# Altium footprint library 400236.PcbLib: 64 footprints (part 2 of 4)
Each footprint in its own frame and in the unit in brackets; x right, y up, seen from the top. Pads: shape width x height; smd on the part's side, far side on the other; paste and mask are expansions set on the pad; w line width, h text height; cw(c..) or ccw(c..) is an arc to the next point about the centre after c.
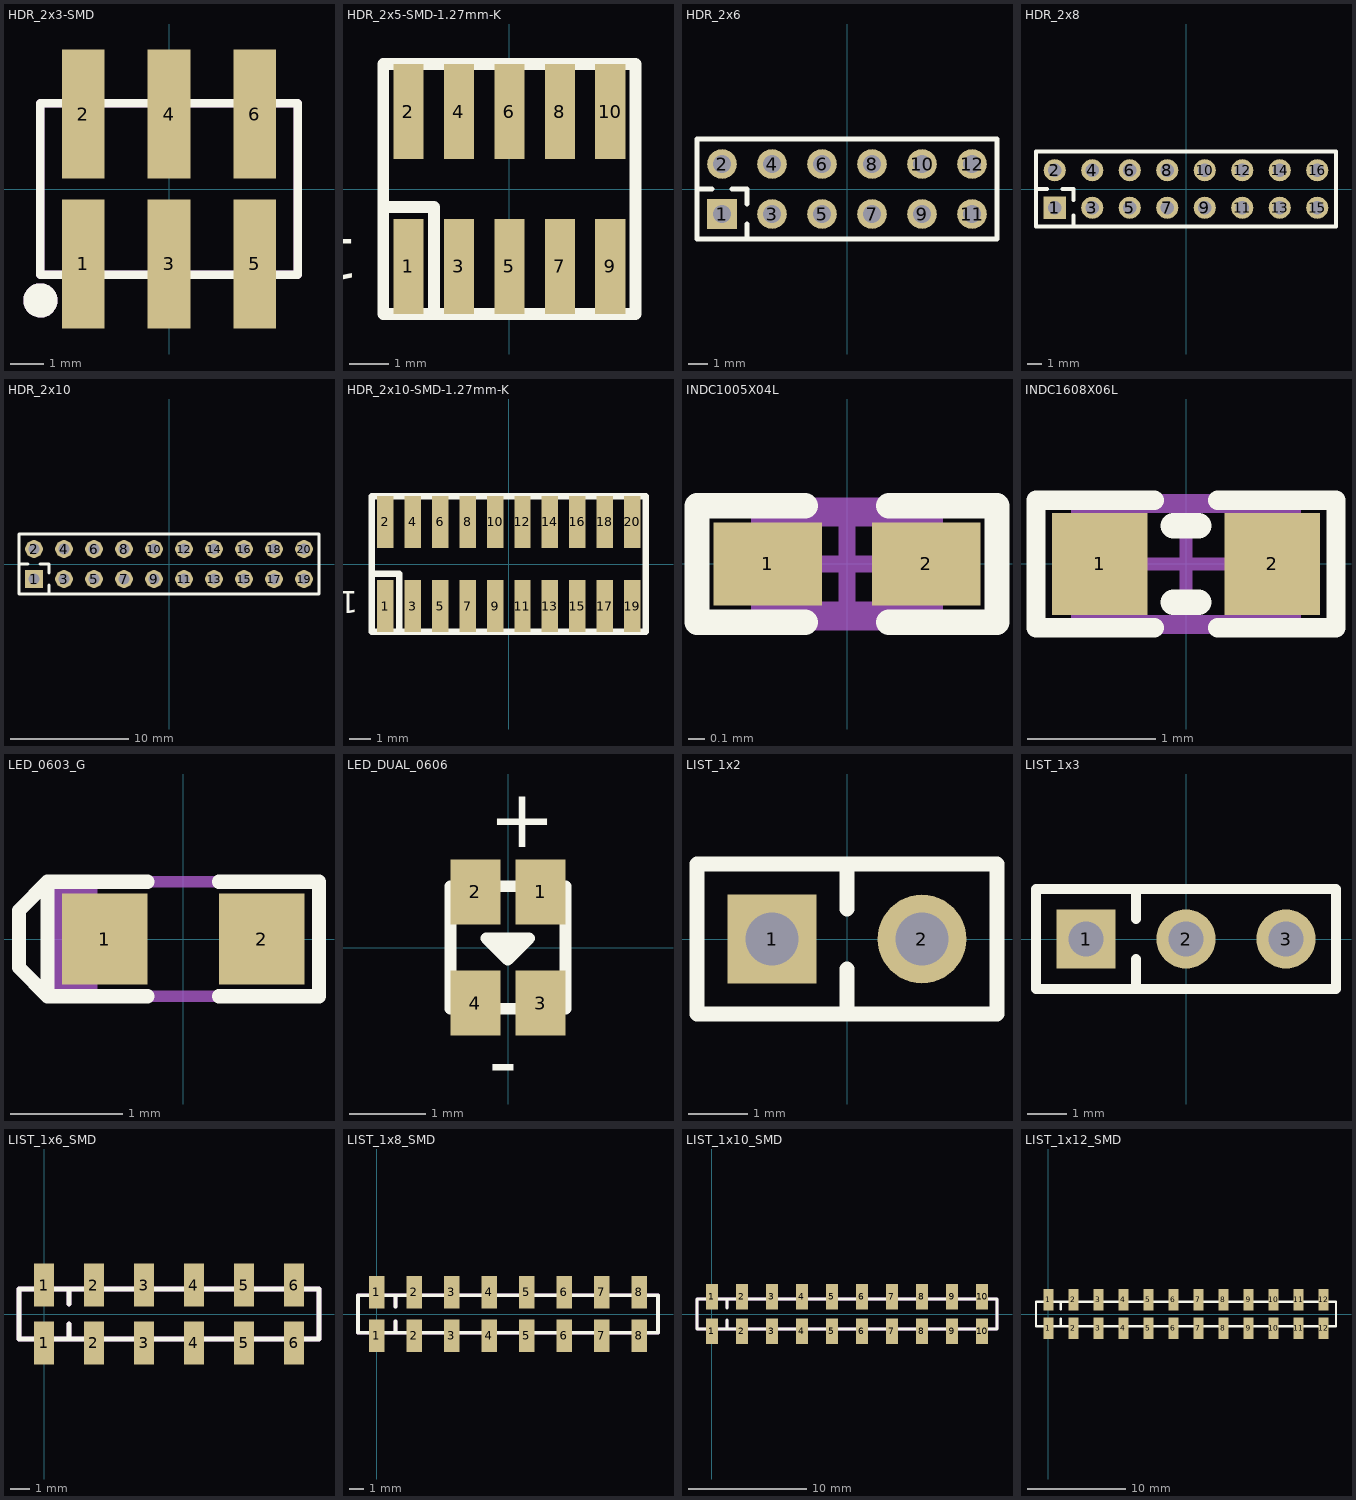
[diagram p1: the footprints below, top view; thin cyan lines are the x and y axes]

## HDR_2x3-SMD [mil]
pads (6):
  rect 50x150 smd: 1(-100,-87.5) 2(-100,87.5) 3(0,-87.5) 4(0,87.5) 5(100,-87.5) 6(100,87.5)
Top Overlay:
  circle w20: c-150,-130 r10
  lines w10: -150,-100 -150,100 150,100 150,-100 -150,-100
Mechanical 7:
  circle w20: c-150,-130 r10
  lines w10: -150,-100 -150,100 150,100 150,-100 -150,-100
  text ".Designator" at -135,-10 h27
3D body "pin_header_a-sl254-dg-g06mp1.stp": height 382.03, standoff -1.57, extent -149.99,-147.63 150.01,147.64

## HDR_2x5-SMD-1.27mm-K [mm]
pads (10):
  rect 0.76x2.4 smd: 1(-2.54,-1.95) 2(-2.54,1.95) 3(-1.27,-1.95) 4(-1.27,1.95) 5(0,-1.95) 6(0,1.95) 7(1.27,-1.95) 8(1.27,1.95) 9(2.54,-1.95) 10(2.54,1.95)
Top Overlay:
  lines w0.3: -3.175,-0.45 -1.9,-0.45 -1.9,-3.15 ; -3.175,-3.15 -3.175,3.15 3.175,3.15 3.175,-3.15 -3.175,-3.15
  text "1" at -3.81,-1.27 h1.02
3D body "Samtec-FTSH-105-01-F-DV-K.step": height 6.11, standoff -0.01, extent -3.137,-2.921 3.137,2.921

## HDR_2x6 [mm]
pads (12):
  rect 1.5x1.5 hole 0.9: 1(-6.35,-1.27)
  round 1.5 hole 0.9: 2(-6.35,1.27) 3(-3.81,-1.27) 4(-3.81,1.27) 5(-1.27,-1.27) 6(-1.27,1.27) 7(1.27,-1.27) 8(1.27,1.27) 9(3.81,-1.27) 10(3.81,1.27) 11(6.35,-1.27) 12(6.35,1.27)
Top Overlay:
  lines w0.254: -7.62,0 -6.858,0 ; -5.842,0 -5.08,0 -5.08,-0.762 ; -5.08,-2.54 -5.08,-1.778 ; -7.62,-2.54 7.62,-2.54 7.62,2.54 -7.62,2.54 -7.62,-2.54

## HDR_2x8 [mm]
pads (16):
  rect 1.5x1.5 hole 0.9: 1(-8.89,-1.27)
  round 1.5 hole 0.9: 2(-8.89,1.27) 3(-6.35,-1.27) 4(-6.35,1.27) 5(-3.81,-1.27) 6(-3.81,1.27) 7(-1.27,-1.27) 8(-1.27,1.27) 9(1.27,-1.27) 10(1.27,1.27) 11(3.81,-1.27) 12(3.81,1.27) 13(6.35,-1.27) 14(6.35,1.27) 15(8.89,-1.27) 16(8.89,1.27)
Top Overlay:
  lines w0.254: -10.16,0 -9.398,0 ; -8.382,0 -7.62,0 -7.62,-0.762 ; -7.62,-2.54 -7.62,-1.778 ; -10.16,-2.54 10.16,-2.54 10.16,2.54 -10.16,2.54 -10.16,-2.54

## HDR_2x10 [mm]
pads (20):
  rect 1.5x1.5 hole 0.9: 1(-11.43,-1.27)
  round 1.5 hole 0.9: 2(-11.43,1.27) 3(-8.89,-1.27) 4(-8.89,1.27) 5(-6.35,-1.27) 6(-6.35,1.27) 7(-3.81,-1.27) 8(-3.81,1.27) 9(-1.27,-1.27) 10(-1.27,1.27) 11(1.27,-1.27) 12(1.27,1.27) 13(3.81,-1.27) 14(3.81,1.27) 15(6.35,-1.27) 16(6.35,1.27) 17(8.89,-1.27) 18(8.89,1.27) 19(11.43,-1.27) 20(11.43,1.27)
Top Overlay:
  lines w0.254: -12.7,0 -11.938,0 ; -10.922,0 -10.16,0 -10.16,-0.762 ; -10.16,-2.54 -10.16,-1.778 ; -12.7,-2.54 -12.7,2.54 12.7,2.54 12.7,-2.54 -12.7,-2.54

## HDR_2x10-SMD-1.27mm-K [mm]
pads (20):
  rect 0.76x2.4 smd: 1(-5.715,-1.95) 2(-5.715,1.95) 3(-4.445,-1.95) 4(-4.445,1.95) 5(-3.175,-1.95) 6(-3.175,1.95) 7(-1.905,-1.95) 8(-1.905,1.95) 9(-0.635,-1.95) 10(-0.635,1.95) 11(0.635,-1.95) 12(0.635,1.95) 13(1.905,-1.95) 14(1.905,1.95) 15(3.175,-1.95) 16(3.175,1.95) 17(4.445,-1.95) 18(4.445,1.95) 19(5.715,-1.95) 20(5.715,1.95)
Top Overlay:
  lines w0.3: -6.35,-0.45 -5.075,-0.45 -5.075,-3.15 ; -6.35,-3.15 -6.35,3.15 6.35,3.15 6.35,-3.15 -6.35,-3.15
  text "1" at -6.985,-1.27 h1.02

## INDC1005X04L [mm]
pads (2):
  rect 0.65x0.5 smd: 1(-0.475,0) 2(0.475,0)
Top Overlay:
  lines w0.152: -0.25,-0.35 -0.9,-0.35 -0.9,0.35 -0.25,0.35 ; 0.25,-0.35 0.9,-0.35 0.9,0.35 0.25,0.35
Mechanical 7:
  lines w0.1: -0.525,-0.275 -0.525,0.275 0.525,0.275 0.525,-0.275 -0.525,-0.275
  text ".Designator" at -0.531,0.396 h0.38
Mechanical 15:
  lines w0.1: -0.275,0 0.275,0 ; 0,-0.275 0,0.275 ; -0.9,-0.35 -0.9,0.35 0.9,0.35 0.9,-0.35 -0.9,-0.35
3D body "User Library-Chip Inductor 0402.step": height 0.5, standoff 0, extent -0.5,-0.3 0.5,0.3

## INDC1608X06L [mm]
pads (2):
  rect 0.75x0.8 smd: 1(-0.675,0) 2(0.675,0)
Top Overlay:
  lines w0.152: -0.25,-0.5 -1.175,-0.5 -1.175,0.5 -0.25,0.5 ; 0.25,-0.5 1.175,-0.5 1.175,0.5 0.25,0.5
  lines w0.2: -0.1,-0.3 0.1,-0.3 ; -0.1,0.3 0.1,0.3
Mechanical 7:
  lines w0.1: -0.85,-0.45 0.85,-0.45 0.85,0.45 -0.85,0.45 -0.85,-0.45
  text ".Designator" at -0.7,-0.2 h0.38
Mechanical 15:
  lines w0.1: -0.45,0 0.45,0 ; 0,-0.45 0,0.45 ; -1.175,-0.5 1.175,-0.5 1.175,0.5 -1.175,0.5 -1.175,-0.5
3D body "User Library-Chip Inductor.step": height 0.8, standoff 0, extent -0.8,-0.475 0.8,0.475

## LED_0603_G [mil]
pads (2):
  rect 30x32 smd: 1(-27.5,0) 2(27.5,0)
Top Overlay:
  lines w5: -12.5,-20 -47.5,-20 ; -12.5,20 -47.5,20 ; 12.5,-20 47.5,-20 47.5,20 12.5,20 ; -47.5,-20 -47.5,20 ; -47.5,-20 -57.5,-10 -57.5,10 -47.5,20
Mechanical 7:
  rectangle: -47.5,-20 -30,20
  lines w3.94: -47.5,20 47.5,20 ; -47.5,20 47.5,20 ; -47.5,20 47.5,20 ; -47.5,20 -47.5,-20 47.5,-20 47.5,20
  text ".Designator" at -21.36,-7.15 h15
3D body "User Library-led_0603_green.step": height 23.62, standoff 0, extent -31.63,-15.75 32.15,15.75

## LED_DUAL_0606 [mm]
pads (4):
  rect 0.65x0.85 smd paste+0: 1(0.425,0.725) 2(-0.425,0.725) 3(0.425,-0.725) 4(-0.425,-0.725)
Top Overlay:
  region: -0.285,0.12 -0.005,-0.16 0.275,0.12
  lines w0.15: -0.75,-0.8 0.75,-0.8 ; -0.75,0.8 0.75,0.8
  lines w0.152: -0.75,-0.8 -0.75,0.8 ; 0.75,-0.8 0.75,0.8 ; -0.285,0.12 -0.005,-0.16 0.275,0.12 -0.285,0.12
  text "-" at -0.254,-1.845 h0.76
  text "+" at -0.254,1.305 h0.76
Mechanical 7:
  text ".Designator" at -0.55,-0.625 h0.38
3D body: height 0.36, standoff 0.18, extent -0.525,-0.15 -0.225,0.15
3D body: height 0.55, standoff 0.18, extent -0.75,-0.55 0.75,0.55
3D body: height 0.36, standoff 0.18, extent 0.235,-0.15 0.535,0.15
3D body: height 0.18, standoff 0, extent -0.75,-0.8 0.75,0.8

## LIST_1x2 [mm]
pads (2):
  rect 1.5x1.5 hole 0.9: 1(-1.27,0)
  round 1.5 hole 0.9: 2(1.27,0)
Top Overlay:
  lines w0.254: 0,-1.27 0,-0.508 ; 0,0.508 0,1.27 ; -2.54,-1.27 -2.54,1.27 2.54,1.27 2.54,-1.27 -2.54,-1.27

## LIST_1x3 [mm]
pads (3):
  rect 1.5x1.5 hole 0.9: 1(-2.54,0)
  round 1.5 hole 0.9: 2(0,0) 3(2.54,0)
Top Overlay:
  lines w0.254: -1.27,-1.27 -1.27,-0.508 ; -1.27,0.508 -1.27,1.27 ; -3.81,-1.27 3.81,-1.27 3.81,1.27 -3.81,1.27 -3.81,-1.27

## LIST_1x6_SMD [mm]
pads (12):
  rect 1.02x2.19 smd: 1(0,-1.465) 1(0,1.465) 2(2.54,-1.465) 2(2.54,1.465) 3(5.08,-1.465) 3(5.08,1.465) 4(7.62,-1.465) 4(7.62,1.465) 5(10.16,-1.465) 5(10.16,1.465) 6(12.7,-1.465) 6(12.7,1.465)
Top Overlay:
  lines w0.254: 1.27,-1.27 1.27,-0.508 ; 1.27,0.508 1.27,1.27 ; -1.27,-1.27 13.97,-1.27 13.97,1.27 -1.27,1.27 -1.27,-1.27
Mechanical 7:
  lines w0.254: 1.27,-1.27 1.27,-0.508 ; 1.27,0.508 1.27,1.27 ; -1.27,-1.27 13.97,-1.27 13.97,1.27 -1.27,1.27 -1.27,-1.27
  text ".Designator" at 1.778,-0.254 h0.69

## LIST_1x8_SMD [mm]
pads (16):
  rect 1.02x2.19 smd: 1(0,-1.465) 1(0,1.465) 2(2.54,-1.465) 2(2.54,1.465) 3(5.08,-1.465) 3(5.08,1.465) 4(7.62,-1.465) 4(7.62,1.465) 5(10.16,-1.465) 5(10.16,1.465) 6(12.7,-1.465) 6(12.7,1.465) 7(15.24,-1.465) 7(15.24,1.465) 8(17.78,-1.465) 8(17.78,1.465)
Top Overlay:
  lines w0.254: 1.27,-1.27 1.27,-0.508 ; 1.27,0.508 1.27,1.27 ; -1.27,-1.27 19.05,-1.27 19.05,1.27 -1.27,1.27 -1.27,-1.27
Mechanical 7:
  lines w0.254: 1.27,-1.27 1.27,-0.508 ; 1.27,0.508 1.27,1.27 ; -1.27,-1.27 19.05,-1.27 19.05,1.27 -1.27,1.27 -1.27,-1.27
  text ".Designator" at 1.778,-0.254 h0.69

## LIST_1x10_SMD [mm]
pads (20):
  rect 1.02x2.19 smd: 1(0,-1.465) 1(0,1.465) 2(2.54,-1.465) 2(2.54,1.465) 3(5.08,-1.465) 3(5.08,1.465) 4(7.62,-1.465) 4(7.62,1.465) 5(10.16,-1.465) 5(10.16,1.465) 6(12.7,-1.465) 6(12.7,1.465) 7(15.24,-1.465) 7(15.24,1.465) 8(17.78,-1.465) 8(17.78,1.465) 9(20.32,-1.465) 9(20.32,1.465) 10(22.86,-1.465) 10(22.86,1.465)
Top Overlay:
  lines w0.254: 1.27,-1.27 1.27,-0.508 ; 1.27,0.508 1.27,1.27 ; -1.27,-1.27 -1.27,1.27 24.13,1.27 24.13,-1.27 -1.27,-1.27
Mechanical 7:
  lines w0.254: 1.27,-1.27 1.27,-0.508 ; 1.27,0.508 1.27,1.27 ; -1.27,-1.27 -1.27,1.27 24.13,1.27 24.13,-1.27 -1.27,-1.27
  text ".Designator" at 2.032,-0.254 h0.69

## LIST_1x12_SMD [mm]
pads (24):
  rect 1.02x2.19 smd: 1(0,-1.465) 1(0,1.465) 2(2.54,-1.465) 2(2.54,1.465) 3(5.08,-1.465) 3(5.08,1.465) 4(7.62,-1.465) 4(7.62,1.465) 5(10.16,-1.465) 5(10.16,1.465) 6(12.7,-1.465) 6(12.7,1.465) 7(15.24,-1.465) 7(15.24,1.465) 8(17.78,-1.465) 8(17.78,1.465) 9(20.32,-1.465) 9(20.32,1.465) 10(22.86,-1.465) 10(22.86,1.465) 11(25.4,-1.465) 11(25.4,1.465) 12(27.94,-1.465) 12(27.94,1.465)
Top Overlay:
  lines w0.254: 1.27,-1.27 1.27,-0.508 ; 1.27,0.508 1.27,1.27 ; -1.27,-1.27 29.21,-1.27 29.21,1.27 -1.27,1.27 -1.27,-1.27
3D body "pin_header_a-sl254-eg-g12mp1.stp": height 9.82, standoff -0.02, extent -1.27,-2.5 29.21,2.5